# Altium schematic symbol library Passive.SchLib: 9 symbols
Pins are listed as number, name and electrical type; pins without a type are passive.

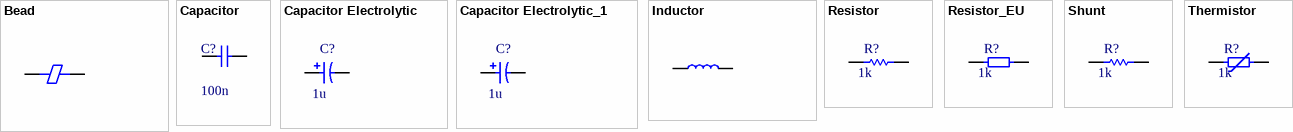
[diagram p0: symbols Bead to Thermistor]

## Bead
designator L?
Ferrite bead; MPN: *; Package: *
footprint Bead_0402_HD (Ferrite Bead, 0402, IPC High Density)
footprint Bead_0402_HD_Outline (Ferrite Bead, 0402, IPC High Density)
footprint Bead_0402_LD (Ferrite Bead, 0402, IPC Low Density)
footprint Bead_0402_LD_Outline (Ferrite Bead, 0402, IPC Low Density)
footprint Bead_0402_MD (Ferrite Bead, 0402, IPC Medium Density)
footprint Bead_0402_MD_Outline (Ferrite Bead, 0402, IPC Medium Density)
footprint Bead_0805_HD (Ferrite Bead, 0805, IPC High Density)
footprint Bead_0805_HD_Outline (Ferrite Bead, 0805, IPC High Density with outline)
footprint Bead_0805_LD (Ferrite Bead, 0805, IPC Low Density)
footprint Bead_0805_LD_outline (Ferrite Bead, 0805, IPC Low Density with outline)
footprint Bead_0805_MD (Ferrite Bead, 0805, IPC Medium Density)
footprint Bead_0805_MD_outline (Ferrite Bead, 0805, IPC Medium Density with outline)
pins: 1, 2

## Capacitor
designator C?, comment 100n
Capacitor; Value: 100n; MPN: *; Package: *
footprint Cap_0805_HD (Chip Capacitor, 0805, IPC High Density)
footprint Cap_0805_HD_outline (Chip Capacitor, 0805, IPC High Density with outline)
footprint Cap_0805_LD (Chip Capacitor, 0805, IPC Low Density)
footprint Cap_0805_LD_outline (Chip Capacitor, 0805, IPC Low Density with outline)
footprint Cap_0805_MD_outline (Chip Capacitor, 0805, IPC Medium Density with outline)
footprint Cap_0805_MD (Chip Capacitor, 0805, IPC Medium Density)
footprint Cap_0402_HD (Chip Capacitor, 0402, IPC High Density)
footprint Cap_0402_HD_outline (Chip Capacitor, 0402, IPC High Density with outline)
footprint Cap_0402_LD (Chip Capacitor, 0402, IPC Low Density)
footprint Cap_0402_LD_outline (Chip Capacitor, 0402, IPC Low Density with outline)
footprint Cap_0402_MD (Chip Capacitor, 0402, IPC Medium Density)
footprint Cap_0402_MD_outline (Chip Capacitor, 0402, IPC Medium Density with outline)
footprint Cap_0603_HD (Chip Capacitor, 0603, IPC High Density)
footprint Cap_0603_HD_outline (Chip Capacitor, 0603, IPC High Density with outline)
footprint Cap_0603_LD (Chip Capacitor, 0603, IPC Low Density)
footprint Cap_0603_LD_outline (Chip Capacitor, 0603, IPC Low Density with outline)
footprint Cap_0603_MD (Chip Capacitor, 0603, IPC Medium Density)
footprint Cap_0603_MD_outline (Chip Capacitor, 0603, IPC Medium Density with outline)
pins: 1, 2

## Capacitor Electrolytic
designator C?, comment 1u
Aluminium Electrolytic Capacitor; Value: 1u; MPN: *
footprint AECAP_6.3x7.7 (Aluminium Electrolytic Capacitor)
footprint CAPAE1350X1400N
pins: 1, 2
1 alternate drawing of the same symbol

## Capacitor Electrolytic_1
designator C?, comment 1u
Aluminium Polymer Capacitor; Value: 1u; MPN: *
footprint CAPPM7343X200N
pins: 1, 2
1 alternate drawing of the same symbol

## Inductor
designator L?, comment 1u
Inductor; Value: 1u; MPN: *; Package: *
footprint Ind_0805_HD (Chip Inductor, 0805, IPC High Density)
footprint Ind_0805_LD (Chip Inductor, 0805, IPC Low Density)
footprint Ind_0805_MD (Chip Inductor, 0805, IPC Medium Density)
pins: 1, 2

## Resistor
designator R?, comment 1k
Resistor; Value: 1k; MPN: *; Package: *
footprint Res_0805_LD_outline (Chip Resistor, 0805, IPC Low Density with outline)
footprint Res_0805_LD (Chip Resistor, 0805, IPC Low Density)
footprint Res_0805_HD (Chip Resistor, 0805, IPC High Density)
footprint Res_0805_HD_outline (Chip Resistor, 0805, IPC High Density with outline)
footprint Res_0805_MD (Chip Resistor, 0805, IPC Medium Density)
footprint Res_0805_MD_outline (Chip Resistor, 0805, IPC Medium Density with outline)
footprint Res_0603_HD (Chip Resistor, 0603, IPC High Density)
footprint Res_0603_HD_outliine (Chip Resistor, 0603, IPC High Density with outline)
footprint Res_0603_LD (Chip Resistor, 0603, IPC Low Density)
footprint Res_0402_LD_outline (Chip Resistor, 0402, IPC Low Density with outline)
footprint Res_0603_LD_outline (Chip Resistor, 0603, IPC Low Density with outline)
footprint Res_0603_MD (Chip Resistor, 0603, IPC Medium Density)
footprint Res_0603_MD_outline (Chip Resistor, 0603, IPC Medium Density with outline)
pins: 1, 2

## Resistor_EU
designator R?, comment 1k
Resistor EU; Value: 1k; MPN: *; Package: *
footprint Res_0805_LD_outline (Chip Resistor, 0805, IPC Low Density with outline)
footprint Res_0805_LD (Chip Resistor, 0805, IPC Low Density)
footprint Res_0805_HD (Chip Resistor, 0805, IPC High Density)
footprint Res_0805_HD_outline (Chip Resistor, 0805, IPC High Density with outline)
footprint Res_0805_MD (Chip Resistor, 0805, IPC Medium Density)
footprint Res_0805_MD_outline (Chip Resistor, 0805, IPC Medium Density with outline)
footprint Res_0603_HD (Chip Resistor, 0603, IPC High Density)
footprint Res_0603_HD_outliine (Chip Resistor, 0603, IPC High Density with outline)
footprint Res_0603_LD (Chip Resistor, 0603, IPC Low Density)
footprint Res_0402_LD_outline (Chip Resistor, 0402, IPC Low Density with outline)
footprint Res_0603_LD_outline (Chip Resistor, 0603, IPC Low Density with outline)
footprint Res_0603_MD (Chip Resistor, 0603, IPC Medium Density)
footprint Res_0603_MD_outline (Chip Resistor, 0603, IPC Medium Density with outline)
pins: 1, 2

## Shunt
designator R?, comment 1k
Resistor; Value: 1k; MPN: *; Package: *
footprint Res_0805_LD_outline (Chip Resistor, 0805, IPC Low Density with outline)
footprint Res_0805_LD (Chip Resistor, 0805, IPC Low Density)
footprint Res_0805_HD (Chip Resistor, 0805, IPC High Density)
footprint Res_0805_HD_outline (Chip Resistor, 0805, IPC High Density with outline)
footprint Res_0805_MD (Chip Resistor, 0805, IPC Medium Density)
footprint Res_0805_MD_outline (Chip Resistor, 0805, IPC Medium Density with outline)
footprint Res_0603_HD_outliine (Chip Resistor, 0603, IPC High Density with outline)
footprint Res_0603_LD (Chip Resistor, 0603, IPC Low Density)
footprint Res_0603_LD_outline (Chip Resistor, 0603, IPC Low Density with outline)
footprint Res_0603_MD (Chip Resistor, 0603, IPC Medium Density)
footprint Res_0603_MD_outline (Chip Resistor, 0603, IPC Medium Density with outline)
footprint Res_2512
pins: 1, 2

## Thermistor
designator R?, comment 1k
Thermistor EU; Value: 1k; MPN: *; Package: *
footprint Res_0805_LD_outline (Chip Resistor, 0805, IPC Low Density with outline)
footprint Res_0805_LD (Chip Resistor, 0805, IPC Low Density)
footprint Res_0805_HD (Chip Resistor, 0805, IPC High Density)
footprint Res_0805_HD_outline (Chip Resistor, 0805, IPC High Density with outline)
footprint Res_0805_MD (Chip Resistor, 0805, IPC Medium Density)
footprint Res_0805_MD_outline (Chip Resistor, 0805, IPC Medium Density with outline)
footprint Res_0603_HD (Chip Resistor, 0603, IPC High Density)
footprint Res_0603_HD_outliine (Chip Resistor, 0603, IPC High Density with outline)
footprint Res_0603_LD (Chip Resistor, 0603, IPC Low Density)
footprint Res_0402_LD_outline (Chip Resistor, 0402, IPC Low Density with outline)
footprint Res_0603_LD_outline (Chip Resistor, 0603, IPC Low Density with outline)
footprint Res_0603_MD (Chip Resistor, 0603, IPC Medium Density)
footprint Res_0603_MD_outline (Chip Resistor, 0603, IPC Medium Density with outline)
pins: 1, 2